# EAGLE library part 78LXX-SMD (library TABOR K1)
Positive VOLTAGE REGULATOR
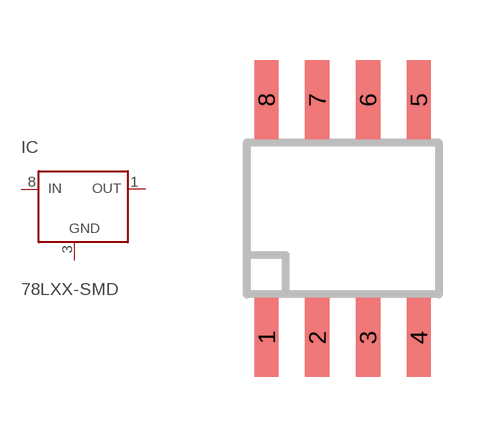
[diagram p34: symbol with the pads of SO08; footprint SO08]

Designator prefix IC

## 78LXX-SMDSO08-SMD  [SO08]
1  VOUT  pas
2  GND  pas
3  GND  pas
4  NC4  nc
5  NC5  nc
6  GND  pas
7  GND  pas
8  VIN  in

## Footprint SO08 (pad centres in mm)
Puzdro SO08 : cinova ploska = 0,86 mm
smd 0.61 x 1.981: 1 -1.905,-2.972; 2 -0.635,-2.972; 3 0.635,-2.972; 4 1.905,-2.972; 5 1.905,2.972; 6 0.635,2.972; 7 -0.635,2.972; 8 -1.905,2.972